# Altium schematic symbol library WR-BTB.SchLib: 27 symbols
Pins are listed as number, name and electrical type; pins without a type are passive.

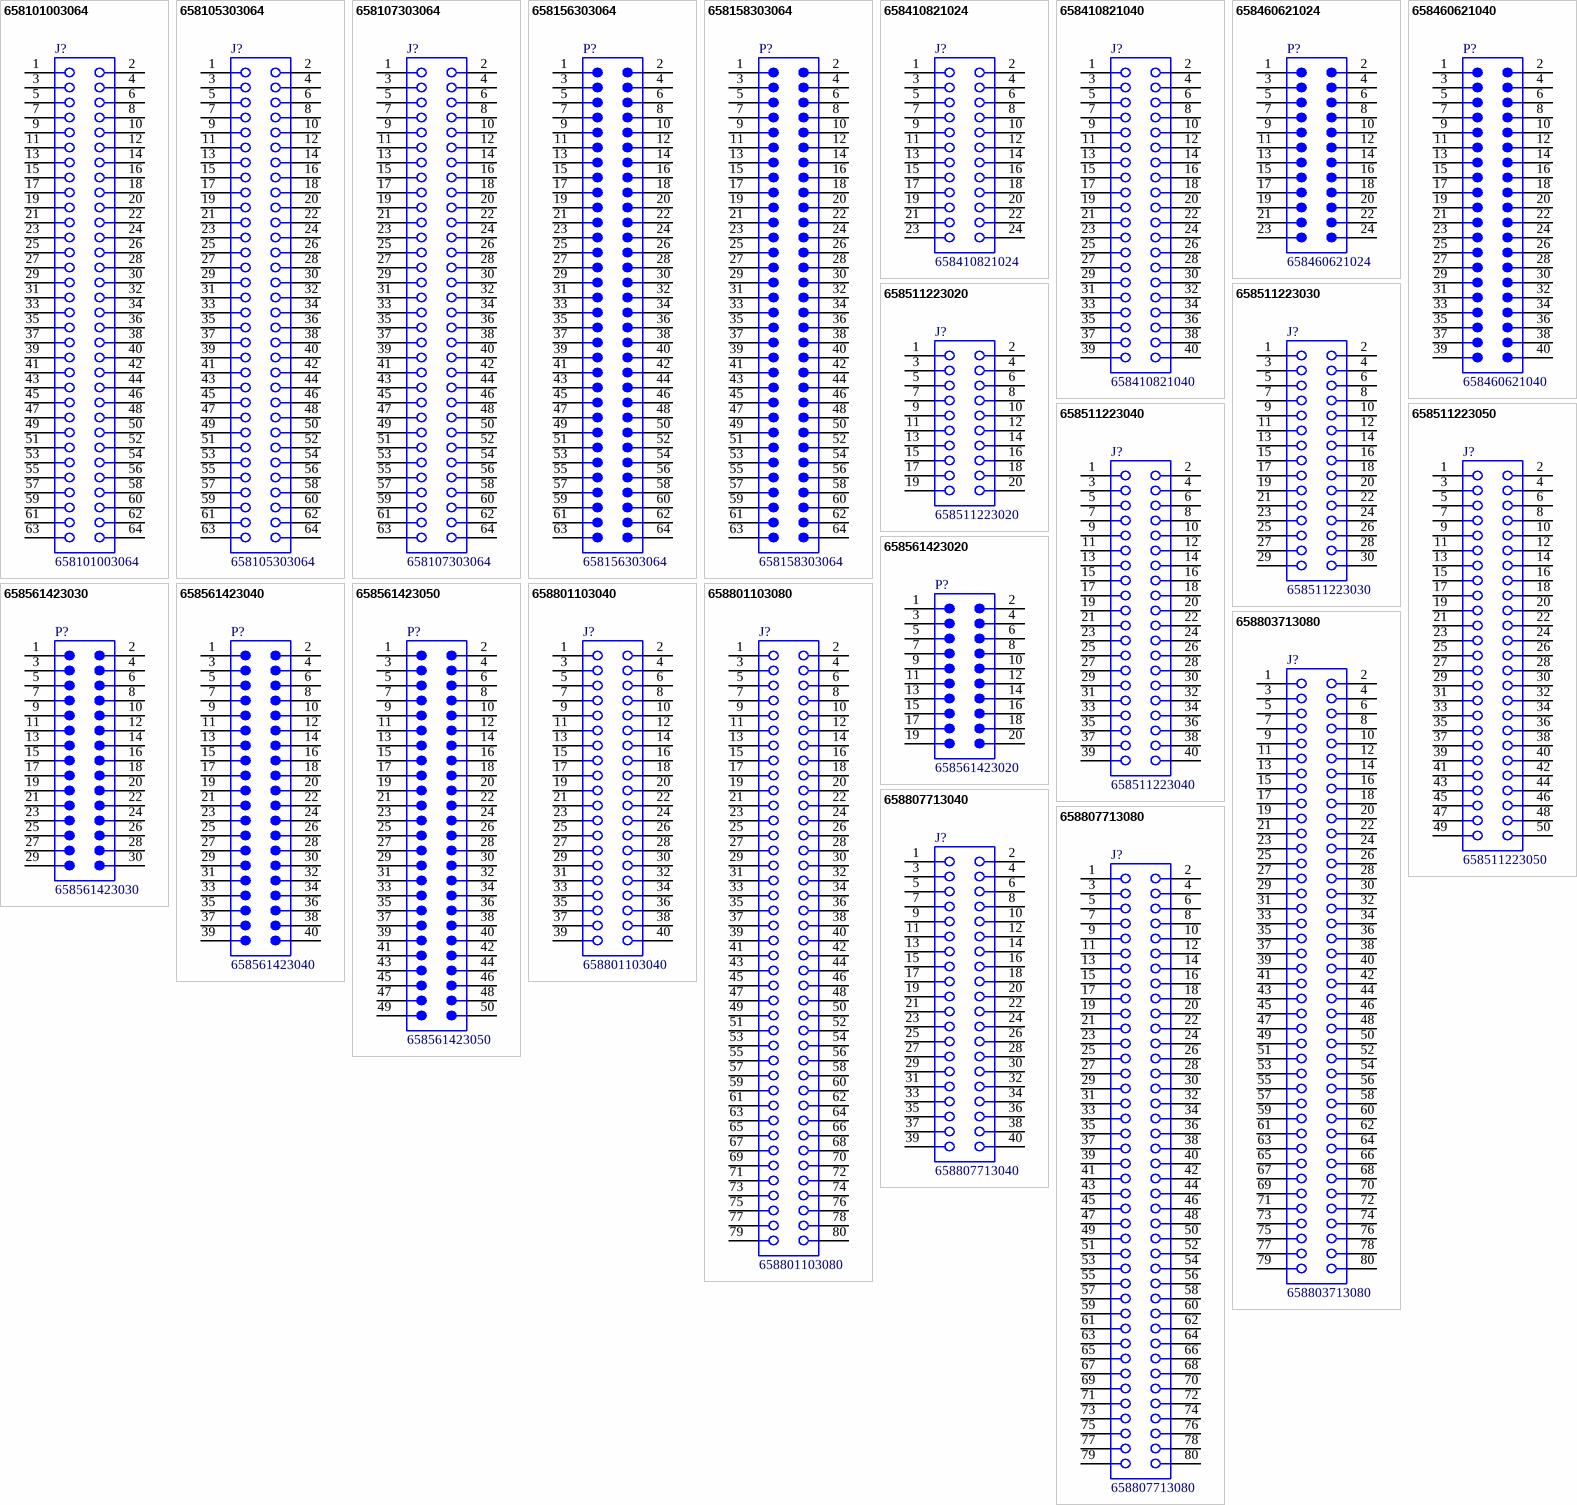
[diagram p0: symbols 658101003064 to 658807713080]

## 658101003064
designator J?
WR-BTB Board to Board Connector, Female Receptacle, height 10.3mm, pitch 1mm, 64p; Manufacturer: Wurth Elektronik; Contact Resistance: 30mΩ; Rated Current: 1000mA; Working Voltage: 100VAC; Manufacturer Part Number: 658101003064; Category: Board-to-Board Connector; Match Code: WR-BTB; ComponentLink1Description: Website Link; ComponentLink1URL: https://www.we-online.com/redexpert/article/658101003064?ad; ComponentLink2Description: Datasheet Link; ComponentLink2URL: https://www.we-online.com/redexpert/spec/658101003064?ad; Mount: Surface Mount; Min Operating Temperature: -55°C; Max Operating Temperature: 85°C; Packaging: Tape and Reel; Height: 10.3mm; Gender: Female Receptacle; Number of Pins: 64; Pitch: 1mm
footprint 658101003064
pins: 1, 2, 3, 4, 5, 6, 7, 8, 9, 10, 11, 12, 13, 14, 15, 16, 17, 18, 19, 20, 21, 22, 23, 24, 25, 26, 27, 28, 29, 30, 31, 32, 33, 34, 35, 36, 37, 38, 39, 40, 41, 42, 43, 44, 45, 46, 47, 48, 49, 50, 51, 52, 53, 54, 55, 56, 57, 58, 59, 60, 61, 62, 63, 64

## 658105303064
designator J?
WR-BTB Board to Board Connector, Female Receptacle, height 5.3mm, pitch 1mm, 64p; Manufacturer: Wurth Elektronik; Contact Resistance: 30mΩ; Rated Current: 1000mA; Working Voltage: 100VAC; Manufacturer Part Number: 658105303064; Category: Board-to-Board Connector; Match Code: WR-BTB; ComponentLink1Description: Website Link; ComponentLink1URL: https://www.we-online.com/redexpert/article/658105303064?ad; ComponentLink2Description: Datasheet Link; ComponentLink2URL: https://www.we-online.com/redexpert/spec/658105303064?ad; Mount: Surface Mount; Min Operating Temperature: -55°C; Max Operating Temperature: 85°C; Packaging: Tape and Reel; Height: 5.3mm; Gender: Female Receptacle; Number of Pins: 64; Pitch: 1mm
footprint 658105303064
pins: 1, 2, 3, 4, 5, 6, 7, 8, 9, 10, 11, 12, 13, 14, 15, 16, 17, 18, 19, 20, 21, 22, 23, 24, 25, 26, 27, 28, 29, 30, 31, 32, 33, 34, 35, 36, 37, 38, 39, 40, 41, 42, 43, 44, 45, 46, 47, 48, 49, 50, 51, 52, 53, 54, 55, 56, 57, 58, 59, 60, 61, 62, 63, 64

## 658107303064
designator J?
WR-BTB Board to Board Connector, Female Receptacle, height 7.3mm, pitch 1mm, 64p; Manufacturer: Wurth Elektronik; Contact Resistance: 30mΩ; Rated Current: 1000mA; Working Voltage: 100VAC; Manufacturer Part Number: 658107303064; Category: Board-to-Board Connector; Match Code: WR-BTB; ComponentLink1Description: Website Link; ComponentLink1URL: https://www.we-online.com/redexpert/article/658107303064?ad; ComponentLink2Description: Datasheet Link; ComponentLink2URL: https://www.we-online.com/redexpert/spec/658107303064?ad; Mount: Surface Mount; Min Operating Temperature: -55°C; Max Operating Temperature: 85°C; Packaging: Tape and Reel; Height: 7.3mm; Gender: Female Receptacle; Number of Pins: 64; Pitch: 1mm
footprint 658107303064
pins: 1, 2, 3, 4, 5, 6, 7, 8, 9, 10, 11, 12, 13, 14, 15, 16, 17, 18, 19, 20, 21, 22, 23, 24, 25, 26, 27, 28, 29, 30, 31, 32, 33, 34, 35, 36, 37, 38, 39, 40, 41, 42, 43, 44, 45, 46, 47, 48, 49, 50, 51, 52, 53, 54, 55, 56, 57, 58, 59, 60, 61, 62, 63, 64

## 658156303064
designator P?
WR-BTB Board to Board Connector, Male Plug, height 6.35mm, pitch 1mm, 64p; Manufacturer: Wurth Elektronik; Contact Resistance: 30mΩ; Rated Current: 1000mA; Working Voltage: 100VAC; Manufacturer Part Number: 658156303064; Category: Board-to-Board Connector; Match Code: WR-BTB; ComponentLink1Description: Website Link; ComponentLink1URL: https://www.we-online.com/redexpert/article/658156303064?ad; ComponentLink2Description: Datasheet Link; ComponentLink2URL: https://www.we-online.com/redexpert/spec/658156303064?ad; Mount: Surface Mount; Min Operating Temperature: -55°C; Max Operating Temperature: 85°C; Packaging: Tape and Reel; Height: 6.35mm; Gender: Male Plug; Number of Pins: 64; Pitch: 1mm
footprint 658156303064
pins: 1, 2, 3, 4, 5, 6, 7, 8, 9, 10, 11, 12, 13, 14, 15, 16, 17, 18, 19, 20, 21, 22, 23, 24, 25, 26, 27, 28, 29, 30, 31, 32, 33, 34, 35, 36, 37, 38, 39, 40, 41, 42, 43, 44, 45, 46, 47, 48, 49, 50, 51, 52, 53, 54, 55, 56, 57, 58, 59, 60, 61, 62, 63, 64

## 658158303064
designator P?
WR-BTB Board to Board Connector, Male Plug, height 8.35mm, pitch 1mm, 64p; Manufacturer: Wurth Elektronik; Contact Resistance: 30mΩ; Rated Current: 1000mA; Working Voltage: 100VAC; Manufacturer Part Number: 658158303064; Category: Board-to-Board Connector; Match Code: WR-BTB; ComponentLink1Description: Website Link; ComponentLink1URL: https://www.we-online.com/redexpert/article/658158303064?ad; ComponentLink2Description: Datasheet Link; ComponentLink2URL: https://www.we-online.com/redexpert/spec/658158303064?ad; Mount: Surface Mount; Min Operating Temperature: -55°C; Max Operating Temperature: 85°C; Packaging: Tape and Reel; Height: 8.35mm; Gender: Male Plug; Number of Pins: 64; Pitch: 1mm
footprint 658158303064
pins: 1, 2, 3, 4, 5, 6, 7, 8, 9, 10, 11, 12, 13, 14, 15, 16, 17, 18, 19, 20, 21, 22, 23, 24, 25, 26, 27, 28, 29, 30, 31, 32, 33, 34, 35, 36, 37, 38, 39, 40, 41, 42, 43, 44, 45, 46, 47, 48, 49, 50, 51, 52, 53, 54, 55, 56, 57, 58, 59, 60, 61, 62, 63, 64

## 658410821024
designator J?
WR-BTB Board to Board Connector, Receptacle, height 0.87mm, pitch 0.4mm, 24p; Manufacturer: Wurth Elektronik; Contact Resistance: 80mΩ; Rated Current: 300mA; Working Voltage: 30VAC; Manufacturer Part Number: 658410821024; Category: Board-to-Board Connector; Match Code: WR-BTB; ComponentLink1Description: Website Link; ComponentLink1URL: https://www.we-online.com/redexpert/article/658410821024?ad; ComponentLink2Description: Datasheet Link; ComponentLink2URL: https://www.we-online.com/redexpert/spec/658410821024?ad; Mount: Surface Mount; Min Operating Temperature: -40°C; Max Operating Temperature: 85°C; Packaging: Tape and Reel; Height: 0.87mm; Gender: Receptacle; Number of Pins: 24; Pitch: 0.4mm
footprint 658410821024
pins: 1, 2, 3, 4, 5, 6, 7, 8, 9, 10, 11, 12, 13, 14, 15, 16, 17, 18, 19, 20, 21, 22, 23, 24

## 658410821040
designator J?
WR-BTB Board to Board Connector, Receptacle, height 0.87mm, pitch 0.4mm, 40p; Manufacturer: Wurth Elektronik; Contact Resistance: 80mΩ; Rated Current: 300mA; Working Voltage: 30VAC; Manufacturer Part Number: 658410821040; Category: Board-to-Board Connector; Match Code: WR-BTB; ComponentLink1Description: Website Link; ComponentLink1URL: https://www.we-online.com/redexpert/article/658410821040?ad; ComponentLink2Description: Datasheet Link; ComponentLink2URL: https://www.we-online.com/redexpert/spec/658410821040?ad; Mount: Surface Mount; Min Operating Temperature: -40°C; Max Operating Temperature: 85°C; Packaging: Tape and Reel; Height: 0.87mm; Gender: Receptacle; Number of Pins: 40; Pitch: 0.4mm
footprint 658410821040
pins: 1, 2, 3, 4, 5, 6, 7, 8, 9, 10, 11, 12, 13, 14, 15, 16, 17, 18, 19, 20, 21, 22, 23, 24, 25, 26, 27, 28, 29, 30, 31, 32, 33, 34, 35, 36, 37, 38, 39, 40

## 658460621024
designator P?
WR-BTB Board to Board Connector, Plug, height 0.63mm, pitch 0.4mm, 24p; Manufacturer: Wurth Elektronik; Contact Resistance: 80mΩ; Rated Current: 300mA; Working Voltage: 30VAC; Manufacturer Part Number: 658460621024; Category: Board-to-Board Connector; Match Code: WR-BTB; ComponentLink1Description: Website Link; ComponentLink1URL: https://www.we-online.com/redexpert/article/658460621024?ad; ComponentLink2Description: Datasheet Link; ComponentLink2URL: https://www.we-online.com/redexpert/spec/658460621024?ad; Mount: Surface Mount; Min Operating Temperature: -40°C; Max Operating Temperature: 85°C; Packaging: Tape and Reel; Height: 0.63mm; Gender: Plug; Number of Pins: 24; Pitch: 0.4mm
footprint 658460621024
pins: 1, 2, 3, 4, 5, 6, 7, 8, 9, 10, 11, 12, 13, 14, 15, 16, 17, 18, 19, 20, 21, 22, 23, 24

## 658460621040
designator P?
WR-BTB Board to Board Connector, Plug, height 0.63mm, pitch 0.4mm, 40p; Manufacturer: Wurth Elektronik; Contact Resistance: 80mΩ; Rated Current: 300mA; Working Voltage: 30VAC; Manufacturer Part Number: 658460621040; Category: Board-to-Board Connector; Match Code: WR-BTB; ComponentLink1Description: Website Link; ComponentLink1URL: https://www.we-online.com/redexpert/article/658460621040?ad; ComponentLink2Description: Datasheet Link; ComponentLink2URL: https://www.we-online.com/redexpert/spec/658460621040?ad; Mount: Surface Mount; Min Operating Temperature: -40°C; Max Operating Temperature: 85°C; Packaging: Tape and Reel; Height: 0.63mm; Gender: Plug; Number of Pins: 40; Pitch: 0.4mm
footprint 658460621040
pins: 1, 2, 3, 4, 5, 6, 7, 8, 9, 10, 11, 12, 13, 14, 15, 16, 17, 18, 19, 20, 21, 22, 23, 24, 25, 26, 27, 28, 29, 30, 31, 32, 33, 34, 35, 36, 37, 38, 39, 40

## 658511223020
designator J?
WR-BTB Board to Board Connector, Receptacle, height 1.2mm, pitch 0.5mm, 20p; Manufacturer: Wurth Elektronik; Contact Resistance: 60mΩ; Rated Current: 300mA; Working Voltage: 50VAC; Manufacturer Part Number: 658511223020; Category: Board-to-Board Connector; Match Code: WR-BTB; ComponentLink1Description: Website Link; ComponentLink1URL: https://www.we-online.com/redexpert/article/658511223020?ad; ComponentLink2Description: Datasheet Link; ComponentLink2URL: https://www.we-online.com/redexpert/spec/658511223020?ad; Mount: Surface Mount; Min Operating Temperature: -40°C; Max Operating Temperature: 85°C; Packaging: Tape and Reel; Height: 1.2mm; Gender: Receptacle; Number of Pins: 20; Pitch: 0.5mm
footprint 658511223020
pins: 1, 2, 3, 4, 5, 6, 7, 8, 9, 10, 11, 12, 13, 14, 15, 16, 17, 18, 19, 20

## 658511223030
designator J?
WR-BTB Board to Board Connector, Receptacle, height 1.2mm, pitch 0.5mm, 30p; Manufacturer: Wurth Elektronik; Contact Resistance: 60mΩ; Rated Current: 300mA; Working Voltage: 50VAC; Manufacturer Part Number: 658511223030; Category: Board-to-Board Connector; Match Code: WR-BTB; ComponentLink1Description: Website Link; ComponentLink1URL: https://www.we-online.com/redexpert/article/658511223030?ad; ComponentLink2Description: Datasheet Link; ComponentLink2URL: https://www.we-online.com/redexpert/spec/658511223030?ad; Mount: Surface Mount; Min Operating Temperature: -40°C; Max Operating Temperature: 85°C; Packaging: Tape and Reel; Height: 1.2mm; Gender: Receptacle; Number of Pins: 30; Pitch: 0.5mm
footprint 658511223030
pins: 1, 2, 3, 4, 5, 6, 7, 8, 9, 10, 11, 12, 13, 14, 15, 16, 17, 18, 19, 20, 21, 22, 23, 24, 25, 26, 27, 28, 29, 30

## 658511223040
designator J?
WR-BTB Board to Board Connector, Receptacle, height 1.2mm, pitch 0.5mm, 40p; Manufacturer: Wurth Elektronik; Contact Resistance: 60mΩ; Rated Current: 300mA; Working Voltage: 50VAC; Manufacturer Part Number: 658511223040; Category: Board-to-Board Connector; Match Code: WR-BTB; ComponentLink1Description: Website Link; ComponentLink1URL: https://www.we-online.com/redexpert/article/658511223040?ad; ComponentLink2Description: Datasheet Link; ComponentLink2URL: https://www.we-online.com/redexpert/spec/658511223040?ad; Mount: Surface Mount; Min Operating Temperature: -40°C; Max Operating Temperature: 85°C; Packaging: Tape and Reel; Height: 1.2mm; Gender: Receptacle; Number of Pins: 40; Pitch: 0.5mm
footprint 658511223040
pins: 1, 2, 3, 4, 5, 6, 7, 8, 9, 10, 11, 12, 13, 14, 15, 16, 17, 18, 19, 20, 21, 22, 23, 24, 25, 26, 27, 28, 29, 30, 31, 32, 33, 34, 35, 36, 37, 38, 39, 40

## 658511223050
designator J?
WR-BTB Board to Board Connector, Receptacle, height 1.2mm, pitch 0.5mm, 50p; Manufacturer: Wurth Elektronik; Contact Resistance: 60mΩ; Rated Current: 300mA; Working Voltage: 50VAC; Manufacturer Part Number: 658511223050; Category: Board-to-Board Connector; Match Code: WR-BTB; ComponentLink1Description: Website Link; ComponentLink1URL: https://www.we-online.com/redexpert/article/658511223050?ad; ComponentLink2Description: Datasheet Link; ComponentLink2URL: https://www.we-online.com/redexpert/spec/658511223050?ad; Mount: Surface Mount; Min Operating Temperature: -40°C; Max Operating Temperature: 85°C; Packaging: Tape and Reel; Height: 1.2mm; Gender: Receptacle; Number of Pins: 50; Pitch: 0.5mm
footprint 658511223050
pins: 1, 2, 3, 4, 5, 6, 7, 8, 9, 10, 11, 12, 13, 14, 15, 16, 17, 18, 19, 20, 21, 22, 23, 24, 25, 26, 27, 28, 29, 30, 31, 32, 33, 34, 35, 36, 37, 38, 39, 40, 41, 42, 43, 44, 45, 46, 47, 48, 49, 50

## 658561423020
designator P?
WR-BTB Board to Board Connector, Plug, height 1.4mm, pitch 0.5mm, 20p; Manufacturer: Wurth Elektronik; Contact Resistance: 60mΩ; Rated Current: 300mA; Working Voltage: 50VAC; Manufacturer Part Number: 658561423020; Category: Board-to-Board Connector; Match Code: WR-BTB; ComponentLink1Description: Website Link; ComponentLink1URL: https://www.we-online.com/redexpert/article/658561423020?ad; ComponentLink2Description: Datasheet Link; ComponentLink2URL: https://www.we-online.com/redexpert/spec/658561423020?ad; Mount: Surface Mount; Min Operating Temperature: -40°C; Max Operating Temperature: 85°C; Packaging: Tape and Reel; Height: 1.4mm; Gender: Plug; Number of Pins: 20; Pitch: 0.5mm
footprint 658561423020
pins: 1, 2, 3, 4, 5, 6, 7, 8, 9, 10, 11, 12, 13, 14, 15, 16, 17, 18, 19, 20

## 658561423030
designator P?
WR-BTB Board to Board Connector, Plug, height 1.4mm, pitch 0.5mm, 30p; Manufacturer: Wurth Elektronik; Contact Resistance: 60mΩ; Rated Current: 300mA; Working Voltage: 50VAC; Manufacturer Part Number: 658561423030; Category: Board-to-Board Connector; Match Code: WR-BTB; ComponentLink1Description: Website Link; ComponentLink1URL: https://www.we-online.com/redexpert/article/658561423030?ad; ComponentLink2Description: Datasheet Link; ComponentLink2URL: https://www.we-online.com/redexpert/spec/658561423030?ad; Mount: Surface Mount; Min Operating Temperature: -40°C; Max Operating Temperature: 85°C; Packaging: Tape and Reel; Height: 1.4mm; Gender: Plug; Number of Pins: 30; Pitch: 0.5mm
footprint 658561423030
pins: 1, 2, 3, 4, 5, 6, 7, 8, 9, 10, 11, 12, 13, 14, 15, 16, 17, 18, 19, 20, 21, 22, 23, 24, 25, 26, 27, 28, 29, 30

## 658561423040
designator P?
WR-BTB Board to Board Connector, Plug, height 1.4mm, pitch 0.5mm, 40p; Manufacturer: Wurth Elektronik; Contact Resistance: 60mΩ; Rated Current: 300mA; Working Voltage: 50VAC; Manufacturer Part Number: 658561423040; Category: Board-to-Board Connector; Match Code: WR-BTB; ComponentLink1Description: Website Link; ComponentLink1URL: https://www.we-online.com/redexpert/article/658561423040?ad; ComponentLink2Description: Datasheet Link; ComponentLink2URL: https://www.we-online.com/redexpert/spec/658561423040?ad; Mount: Surface Mount; Min Operating Temperature: -40°C; Max Operating Temperature: 85°C; Packaging: Tape and Reel; Height: 1.4mm; Gender: Plug; Number of Pins: 40; Pitch: 0.5mm
footprint 658561423040
pins: 1, 2, 3, 4, 5, 6, 7, 8, 9, 10, 11, 12, 13, 14, 15, 16, 17, 18, 19, 20, 21, 22, 23, 24, 25, 26, 27, 28, 29, 30, 31, 32, 33, 34, 35, 36, 37, 38, 39, 40

## 658561423050
designator P?
WR-BTB Board to Board Connector, Plug, height 1.4mm, pitch 0.5mm, 50p; Manufacturer: Wurth Elektronik; Contact Resistance: 60mΩ; Rated Current: 300mA; Working Voltage: 50VAC; Manufacturer Part Number: 658561423050; Category: Board-to-Board Connector; Match Code: WR-BTB; ComponentLink1Description: Website Link; ComponentLink1URL: https://www.we-online.com/redexpert/article/658561423050?ad; ComponentLink2Description: Datasheet Link; ComponentLink2URL: https://www.we-online.com/redexpert/spec/658561423050?ad; Mount: Surface Mount; Min Operating Temperature: -40°C; Max Operating Temperature: 85°C; Packaging: Tape and Reel; Height: 1.4mm; Gender: Plug; Number of Pins: 50; Pitch: 0.5mm
footprint 658561423050
pins: 1, 2, 3, 4, 5, 6, 7, 8, 9, 10, 11, 12, 13, 14, 15, 16, 17, 18, 19, 20, 21, 22, 23, 24, 25, 26, 27, 28, 29, 30, 31, 32, 33, 34, 35, 36, 37, 38, 39, 40, 41, 42, 43, 44, 45, 46, 47, 48, 49, 50

## 658801103040
designator J?
WR-BTB Board to Board Connector, Female Receptacle, height 11.75mm, pitch 0.8mm, 40p; Manufacturer: Wurth Elektronik; Contact Resistance: 50mΩ; Rated Current: 500mA; Working Voltage: 50VAC; Manufacturer Part Number: 658801103040; Category: Board-to-Board Connector; Match Code: WR-BTB; ComponentLink1Description: Website Link; ComponentLink1URL: https://www.we-online.com/redexpert/article/658801103040?ad; ComponentLink2Description: Datasheet Link; ComponentLink2URL: https://www.we-online.com/redexpert/spec/658801103040?ad; Mount: Surface Mount; Min Operating Temperature: -55°C; Max Operating Temperature: 85°C; Packaging: Tape and Reel; Height: 11.75mm; Gender: Female Receptacle; Number of Pins: 40; Pitch: 0.8mm
footprint 658801103040
pins: 1, 2, 3, 4, 5, 6, 7, 8, 9, 10, 11, 12, 13, 14, 15, 16, 17, 18, 19, 20, 21, 22, 23, 24, 25, 26, 27, 28, 29, 30, 31, 32, 33, 34, 35, 36, 37, 38, 39, 40

## 658801103080
designator J?
WR-BTB Board to Board Connector, Female Receptacle, height 11.75mm, pitch 0.8mm, 80p; Manufacturer: Wurth Elektronik; Contact Resistance: 50mΩ; Rated Current: 500mA; Working Voltage: 50VAC; Manufacturer Part Number: 658801103080; Category: Board-to-Board Connector; Match Code: WR-BTB; ComponentLink1Description: Website Link; ComponentLink1URL: https://www.we-online.com/redexpert/article/658801103080?ad; ComponentLink2Description: Datasheet Link; ComponentLink2URL: https://www.we-online.com/redexpert/spec/658801103080?ad; Mount: Surface Mount; Min Operating Temperature: -55°C; Max Operating Temperature: 85°C; Packaging: Tape and Reel; Height: 11.75mm; Gender: Female Receptacle; Number of Pins: 80; Pitch: 0.8mm
footprint 658801103080
pins: 1, 2, 3, 4, 5, 6, 7, 8, 9, 10, 11, 12, 13, 14, 15, 16, 17, 18, 19, 20, 21, 22, 23, 24, 25, 26, 27, 28, 29, 30, 31, 32, 33, 34, 35, 36, 37, 38, 39, 40, 41, 42, 43, 44, 45, 46, 47, 48, 49, 50, 51, 52, 53, 54, 55, 56, 57, 58, 59, 60, 61, 62, 63, 64, 65, 66, 67, 68, 69, 70, 71, 72, 73, 74, 75, 76, 77, 78, 79, 80

## 658803713080
designator J?
WR-BTB Board to Board Connector, Female Receptacle, height 3.75mm, pitch 0.8mm, 80p; Manufacturer: Wurth Elektronik; Contact Resistance: 50mΩ; Rated Current: 500mA; Working Voltage: 50VAC; Manufacturer Part Number: 658803713080; Category: Board-to-Board Connector; Match Code: WR-BTB; ComponentLink1Description: Website Link; ComponentLink1URL: https://www.we-online.com/redexpert/article/658803713080?ad; ComponentLink2Description: Datasheet Link; ComponentLink2URL: https://www.we-online.com/redexpert/spec/658803713080?ad; Mount: Surface Mount; Min Operating Temperature: -55°C; Max Operating Temperature: 85°C; Packaging: Tape and Reel; Height: 3.75mm; Gender: Female Receptacle; Number of Pins: 80; Pitch: 0.8mm
footprint 658803713080
pins: 1, 2, 3, 4, 5, 6, 7, 8, 9, 10, 11, 12, 13, 14, 15, 16, 17, 18, 19, 20, 21, 22, 23, 24, 25, 26, 27, 28, 29, 30, 31, 32, 33, 34, 35, 36, 37, 38, 39, 40, 41, 42, 43, 44, 45, 46, 47, 48, 49, 50, 51, 52, 53, 54, 55, 56, 57, 58, 59, 60, 61, 62, 63, 64, 65, 66, 67, 68, 69, 70, 71, 72, 73, 74, 75, 76, 77, 78, 79, 80

## 658807713040
designator J?
WR-BTB Board to Board Connector, Female Receptacle, height 7.75mm, pitch 0.8mm, 40p; Manufacturer: Wurth Elektronik; Contact Resistance: 50mΩ; Rated Current: 500mA; Working Voltage: 50VAC; Manufacturer Part Number: 658807713040; Category: Board-to-Board Connector; Match Code: WR-BTB; ComponentLink1Description: Website Link; ComponentLink1URL: https://www.we-online.com/redexpert/article/658807713040?ad; ComponentLink2Description: Datasheet Link; ComponentLink2URL: https://www.we-online.com/redexpert/spec/658807713040?ad; Mount: Surface Mount; Min Operating Temperature: -55°C; Max Operating Temperature: 85°C; Packaging: Tape and Reel; Height: 7.75mm; Gender: Female Receptacle; Number of Pins: 40; Pitch: 0.8mm
footprint 658807713040
pins: 1, 2, 3, 4, 5, 6, 7, 8, 9, 10, 11, 12, 13, 14, 15, 16, 17, 18, 19, 20, 21, 22, 23, 24, 25, 26, 27, 28, 29, 30, 31, 32, 33, 34, 35, 36, 37, 38, 39, 40

## 658807713080
designator J?
WR-BTB Board to Board Connector, Female Receptacle, height 7.75mm, pitch 0.8mm, 80p; Manufacturer: Wurth Elektronik; Contact Resistance: 50mΩ; Rated Current: 500mA; Working Voltage: 50VAC; Manufacturer Part Number: 658807713080; Category: Board-to-Board Connector; Match Code: WR-BTB; ComponentLink1Description: Website Link; ComponentLink1URL: https://www.we-online.com/redexpert/article/658807713080?ad; ComponentLink2Description: Datasheet Link; ComponentLink2URL: https://www.we-online.com/redexpert/spec/658807713080?ad; Mount: Surface Mount; Min Operating Temperature: -55°C; Max Operating Temperature: 85°C; Packaging: Tape and Reel; Height: 7.75mm; Gender: Female Receptacle; Number of Pins: 80; Pitch: 0.8mm
footprint 658807713080
pins: 1, 2, 3, 4, 5, 6, 7, 8, 9, 10, 11, 12, 13, 14, 15, 16, 17, 18, 19, 20, 21, 22, 23, 24, 25, 26, 27, 28, 29, 30, 31, 32, 33, 34, 35, 36, 37, 38, 39, 40, 41, 42, 43, 44, 45, 46, 47, 48, 49, 50, 51, 52, 53, 54, 55, 56, 57, 58, 59, 60, 61, 62, 63, 64, 65, 66, 67, 68, 69, 70, 71, 72, 73, 74, 75, 76, 77, 78, 79, 80

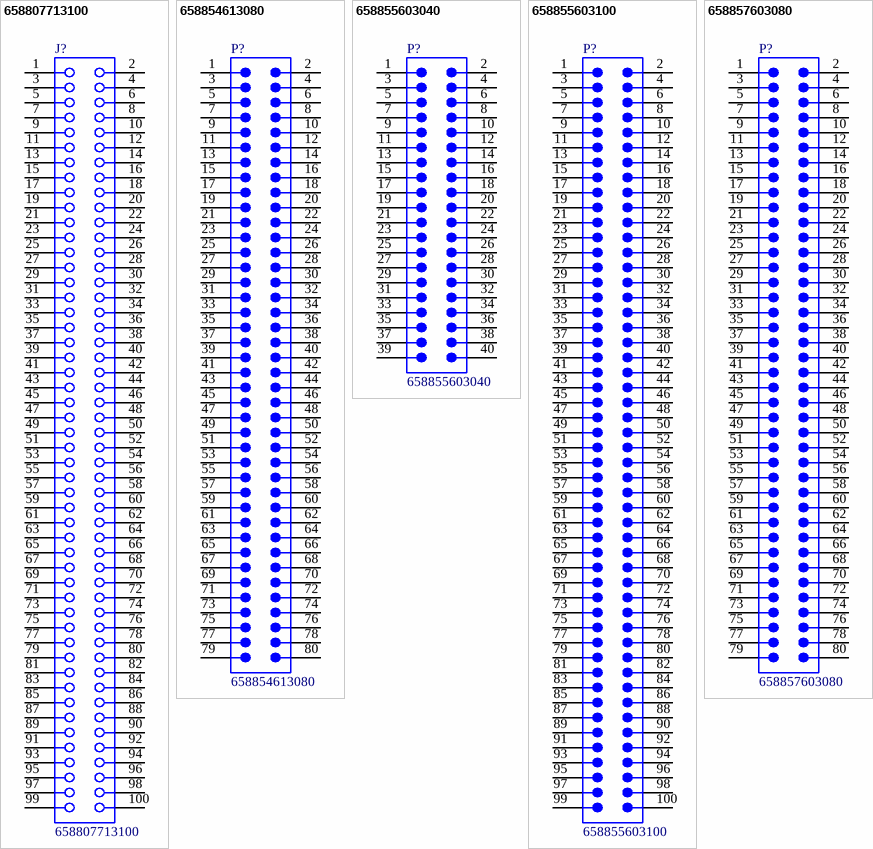
[diagram p1: symbols 658807713100 to 658857603080]

## 658807713100
designator J?
WR-BTB Board to Board Connector, Female Receptacle, height 7.75mm, pitch 0.8mm, 100p; Manufacturer: Wurth Elektronik; Contact Resistance: 50mΩ; Rated Current: 500mA; Working Voltage: 50VAC; Manufacturer Part Number: 658807713100; Category: Board-to-Board Connector; Match Code: WR-BTB; ComponentLink1Description: Website Link; ComponentLink1URL: https://www.we-online.com/redexpert/article/658807713100?ad; ComponentLink2Description: Datasheet Link; ComponentLink2URL: https://www.we-online.com/redexpert/spec/658807713100?ad; Mount: Surface Mount; Min Operating Temperature: -55°C; Max Operating Temperature: 85°C; Packaging: Tape and Reel; Height: 7.75mm; Gender: Female Receptacle; Number of Pins: 100; Pitch: 0.8mm
footprint 658807713100
pins: 1, 2, 3, 4, 5, 6, 7, 8, 9, 10, 11, 12, 13, 14, 15, 16, 17, 18, 19, 20, 21, 22, 23, 24, 25, 26, 27, 28, 29, 30, 31, 32, 33, 34, 35, 36, 37, 38, 39, 40, 41, 42, 43, 44, 45, 46, 47, 48, 49, 50, 51, 52, 53, 54, 55, 56, 57, 58, 59, 60, 61, 62, 63, 64, 65, 66, 67, 68, 69, 70, 71, 72, 73, 74, 75, 76, 77, 78, 79, 80, 81, 82, 83, 84, 85, 86, 87, 88, 89, 90, 91, 92, 93, 94, 95, 96, 97, 98, 99, 100

## 658854613080
designator P?
WR-BTB Board to Board Connector, Male Plug, height 4.6mm, pitch 0.8mm, 80p; Manufacturer: Wurth Elektronik; Contact Resistance: 50mΩ; Rated Current: 500mA; Working Voltage: 50VAC; Manufacturer Part Number: 658854613080; Category: Board-to-Board Connector; Match Code: WR-BTB; ComponentLink1Description: Website Link; ComponentLink1URL: https://www.we-online.com/redexpert/article/658854613080?ad; ComponentLink2Description: Datasheet Link; ComponentLink2URL: https://www.we-online.com/redexpert/spec/658854613080?ad; Mount: Surface Mount; Min Operating Temperature: -55°C; Max Operating Temperature: 85°C; Packaging: Tape and Reel; Height: 4.6mm; Gender: Male Plug; Number of Pins: 80; Pitch: 0.8mm
footprint 658854613080
pins: 1, 2, 3, 4, 5, 6, 7, 8, 9, 10, 11, 12, 13, 14, 15, 16, 17, 18, 19, 20, 21, 22, 23, 24, 25, 26, 27, 28, 29, 30, 31, 32, 33, 34, 35, 36, 37, 38, 39, 40, 41, 42, 43, 44, 45, 46, 47, 48, 49, 50, 51, 52, 53, 54, 55, 56, 57, 58, 59, 60, 61, 62, 63, 64, 65, 66, 67, 68, 69, 70, 71, 72, 73, 74, 75, 76, 77, 78, 79, 80

## 658855603040
designator P?
WR-BTB Board to Board Connector, Male Plug, height 5.6mm, pitch 0.8mm, 40p; Manufacturer: Wurth Elektronik; Contact Resistance: 50mΩ; Rated Current: 500mA; Working Voltage: 50VAC; Manufacturer Part Number: 658855603040; Category: Board-to-Board Connector; Match Code: WR-BTB; ComponentLink1Description: Website Link; ComponentLink1URL: https://www.we-online.com/redexpert/article/658855603040?ad; ComponentLink2Description: Datasheet Link; ComponentLink2URL: https://www.we-online.com/redexpert/spec/658855603040?ad; Mount: Surface Mount; Min Operating Temperature: -55°C; Max Operating Temperature: 85°C; Packaging: Tape and Reel; Height: 5.6mm; Gender: Male Plug; Number of Pins: 40; Pitch: 0.8mm
footprint 658855603040
pins: 1, 2, 3, 4, 5, 6, 7, 8, 9, 10, 11, 12, 13, 14, 15, 16, 17, 18, 19, 20, 21, 22, 23, 24, 25, 26, 27, 28, 29, 30, 31, 32, 33, 34, 35, 36, 37, 38, 39, 40

## 658855603100
designator P?
WR-BTB Board to Board Connector, Male Plug, height 5.6mm, pitch 0.8mm, 100p; Manufacturer: Wurth Elektronik; Contact Resistance: 50mΩ; Rated Current: 500mA; Working Voltage: 50VAC; Manufacturer Part Number: 658855603100; Category: Board-to-Board Connector; Match Code: WR-BTB; ComponentLink1Description: Website Link; ComponentLink1URL: https://www.we-online.com/redexpert/article/658855603100?ad; ComponentLink2Description: Datasheet Link; ComponentLink2URL: https://www.we-online.com/redexpert/spec/658855603100?ad; Mount: Surface Mount; Min Operating Temperature: -55°C; Max Operating Temperature: 85°C; Packaging: Tape and Reel; Height: 5.6mm; Gender: Male Plug; Number of Pins: 100; Pitch: 0.8mm
footprint 658855603100
pins: 1, 2, 3, 4, 5, 6, 7, 8, 9, 10, 11, 12, 13, 14, 15, 16, 17, 18, 19, 20, 21, 22, 23, 24, 25, 26, 27, 28, 29, 30, 31, 32, 33, 34, 35, 36, 37, 38, 39, 40, 41, 42, 43, 44, 45, 46, 47, 48, 49, 50, 51, 52, 53, 54, 55, 56, 57, 58, 59, 60, 61, 62, 63, 64, 65, 66, 67, 68, 69, 70, 71, 72, 73, 74, 75, 76, 77, 78, 79, 80, 81, 82, 83, 84, 85, 86, 87, 88, 89, 90, 91, 92, 93, 94, 95, 96, 97, 98, 99, 100

## 658857603080
designator P?
WR-BTB Board to Board Connector, Male Plug, height 7.6mm, pitch 0.8mm, 80p; Manufacturer: Wurth Elektronik; Contact Resistance: 50mΩ; Rated Current: 500mA; Working Voltage: 50VAC; Manufacturer Part Number: 658857603080; Category: Board-to-Board Connector; Match Code: WR-BTB; ComponentLink1Description: Website Link; ComponentLink1URL: https://www.we-online.com/redexpert/article/658857603080?ad; ComponentLink2Description: Datasheet Link; ComponentLink2URL: https://www.we-online.com/redexpert/spec/658857603080?ad; Mount: Surface Mount; Min Operating Temperature: -55°C; Max Operating Temperature: 85°C; Packaging: Tape and Reel; Height: 7.6mm; Gender: Male Plug; Number of Pins: 80; Pitch: 0.8mm
footprint 658857603080
pins: 1, 2, 3, 4, 5, 6, 7, 8, 9, 10, 11, 12, 13, 14, 15, 16, 17, 18, 19, 20, 21, 22, 23, 24, 25, 26, 27, 28, 29, 30, 31, 32, 33, 34, 35, 36, 37, 38, 39, 40, 41, 42, 43, 44, 45, 46, 47, 48, 49, 50, 51, 52, 53, 54, 55, 56, 57, 58, 59, 60, 61, 62, 63, 64, 65, 66, 67, 68, 69, 70, 71, 72, 73, 74, 75, 76, 77, 78, 79, 80